# Altium schematic symbol library 10M04SCU324.SchLib: 1 symbol
Pins are listed as number, name and electrical type; pins without a type are passive.

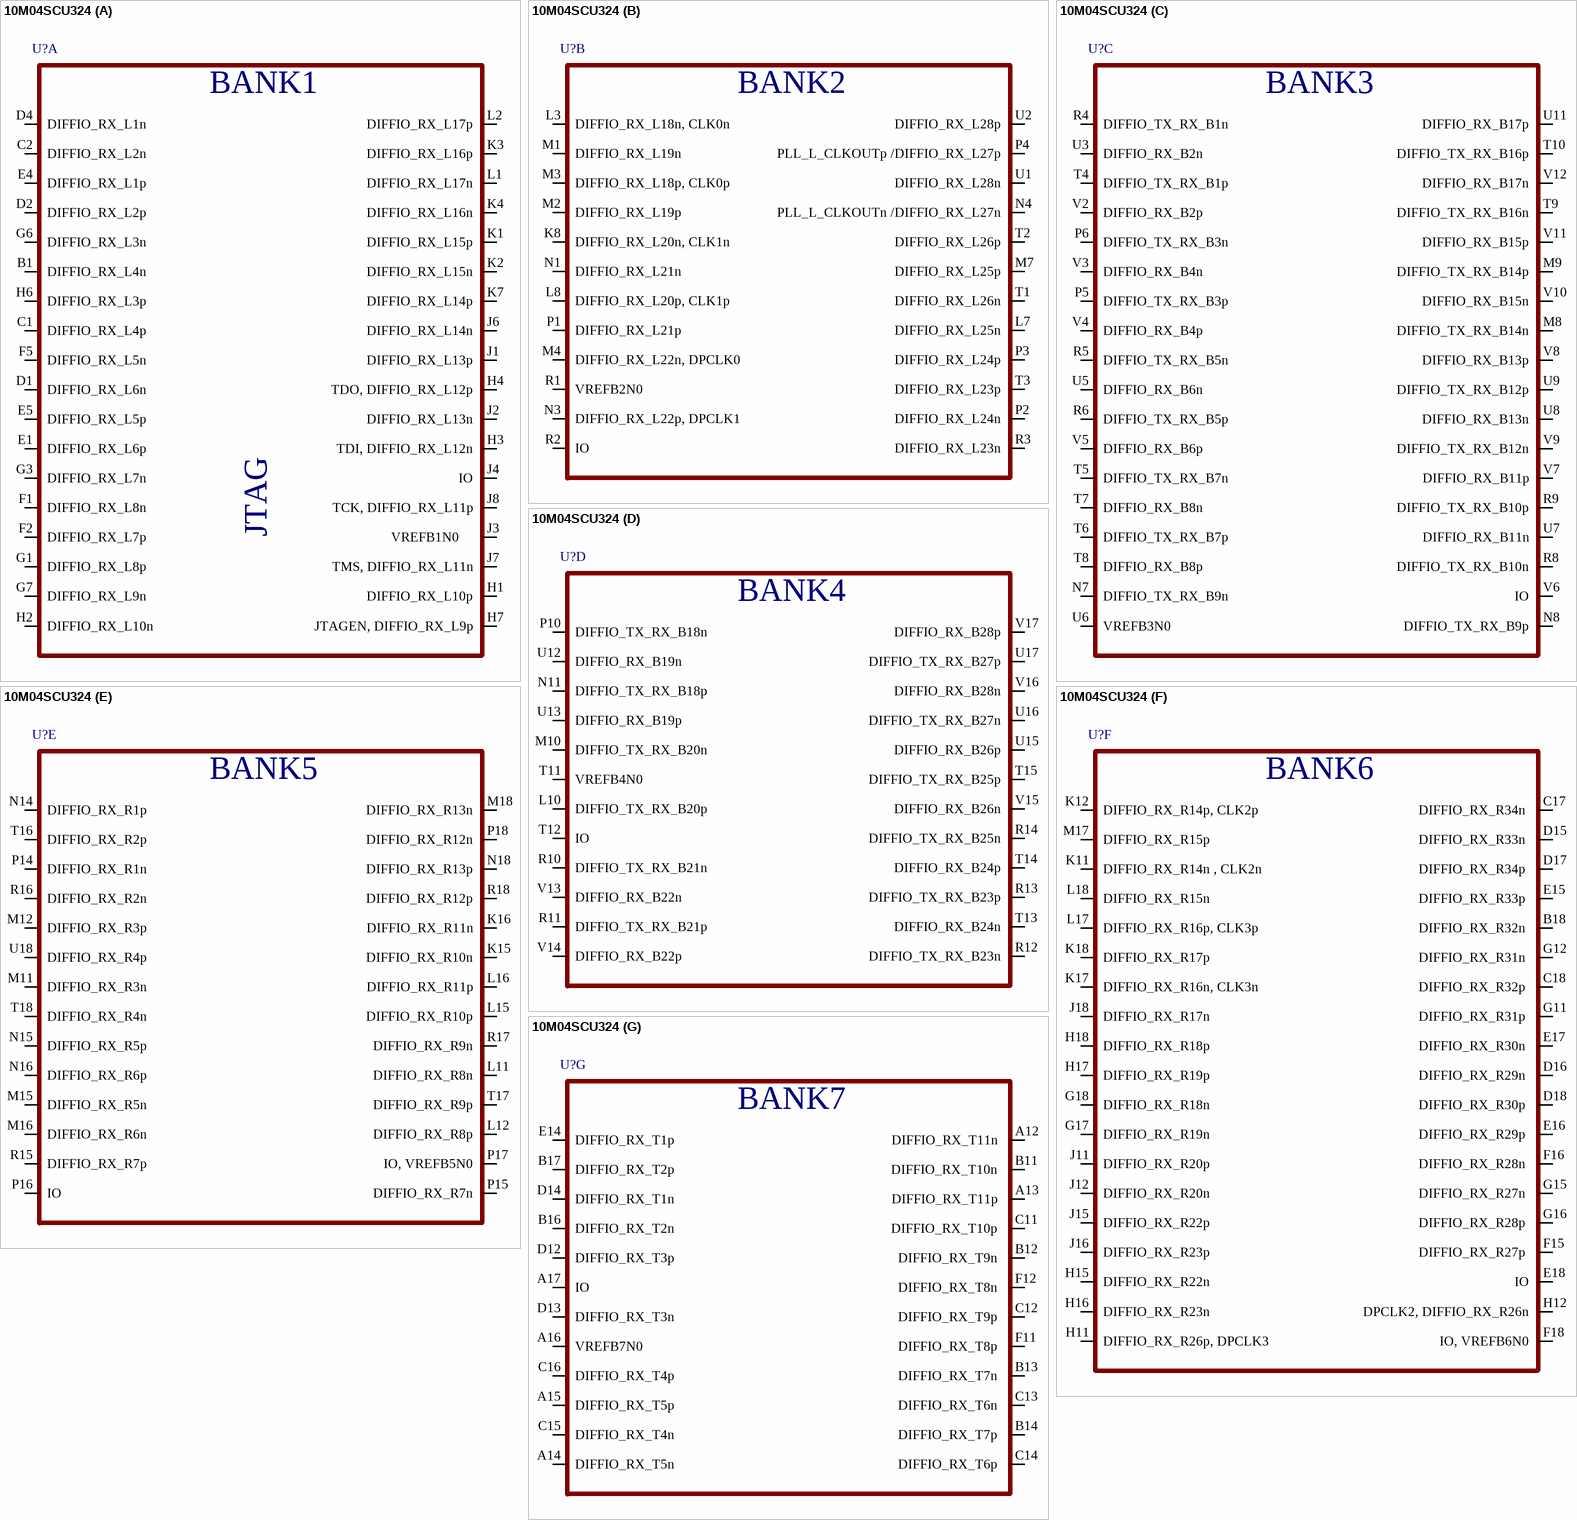
[diagram p0: symbol 10M04SCU324]

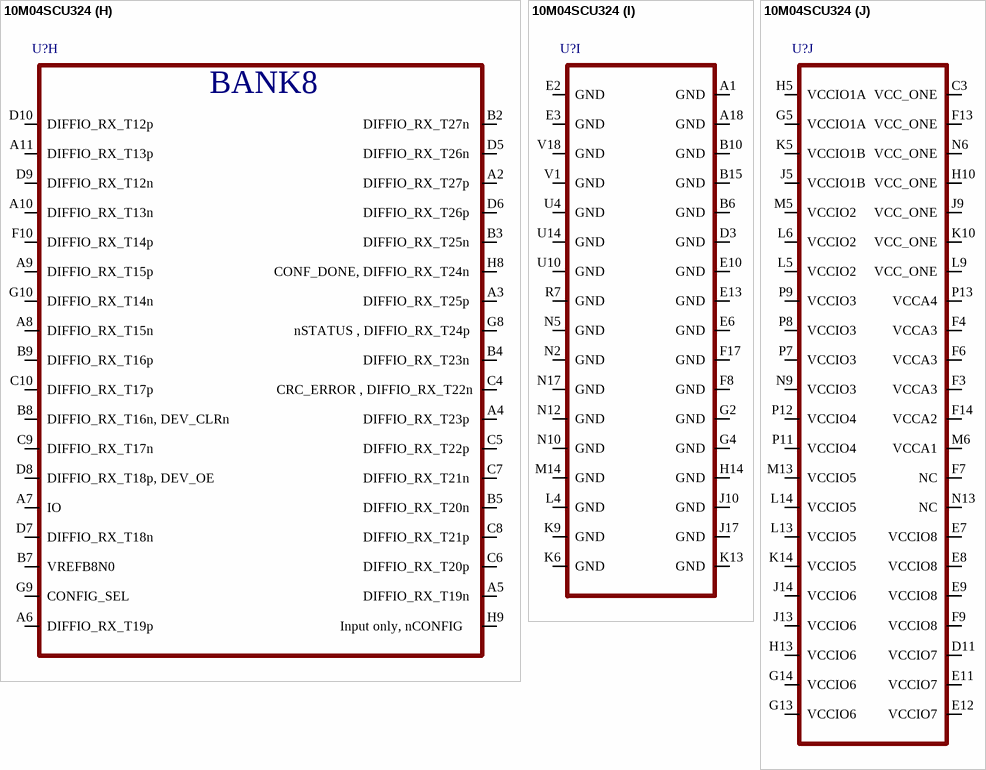
[diagram p1: symbol 10M04SCU324]

## 10M04SCU324
designator U?
part A pins: B1 DIFFIO_RX_L4n, C1 DIFFIO_RX_L4p, C2 DIFFIO_RX_L2n, D1 DIFFIO_RX_L6n, D2 DIFFIO_RX_L2p, D4 DIFFIO_RX_L1n, E1 DIFFIO_RX_L6p, E4 DIFFIO_RX_L1p, E5 DIFFIO_RX_L5p, F1 DIFFIO_RX_L8n, F2 DIFFIO_RX_L7p, F5 DIFFIO_RX_L5n, G1 DIFFIO_RX_L8p, G3 DIFFIO_RX_L7n, G6 DIFFIO_RX_L3n, G7 DIFFIO_RX_L9n, H1 DIFFIO_RX_L10p, H2 DIFFIO_RX_L10n, H3 TDI, DIFFIO_RX_L12n, H4 TDO, DIFFIO_RX_L12p, H6 DIFFIO_RX_L3p, H7 JTAGEN, DIFFIO_RX_L9p, J1 DIFFIO_RX_L13p, J2 DIFFIO_RX_L13n, J3 VREFB1N0    , J4 IO, J6 DIFFIO_RX_L14n, J7 TMS, DIFFIO_RX_L11n, J8 TCK, DIFFIO_RX_L11p, K1 DIFFIO_RX_L15p, K2 DIFFIO_RX_L15n, K3 DIFFIO_RX_L16p, K4 DIFFIO_RX_L16n, K7 DIFFIO_RX_L14p, L1 DIFFIO_RX_L17n, L2 DIFFIO_RX_L17p
part B pins: K8 DIFFIO_RX_L20n, CLK1n, L3 DIFFIO_RX_L18n, CLK0n, L7 DIFFIO_RX_L25n, L8 DIFFIO_RX_L20p, CLK1p, M1 DIFFIO_RX_L19n, M2 DIFFIO_RX_L19p, M3 DIFFIO_RX_L18p, CLK0p, M4 DIFFIO_RX_L22n, DPCLK0, M7 DIFFIO_RX_L25p, N1 DIFFIO_RX_L21n, N3 DIFFIO_RX_L22p, DPCLK1, N4 PLL_L_CLKOUTn /DIFFIO_RX_L27n, P1 DIFFIO_RX_L21p, P2 DIFFIO_RX_L24n, P3 DIFFIO_RX_L24p, P4 PLL_L_CLKOUTp /DIFFIO_RX_L27p, R1 VREFB2N0, R2 IO, R3 DIFFIO_RX_L23n, T1 DIFFIO_RX_L26n, T2 DIFFIO_RX_L26p, T3 DIFFIO_RX_L23p, U1 DIFFIO_RX_L28n, U2 DIFFIO_RX_L28p
part C pins: M8 DIFFIO_TX_RX_B14n, M9 DIFFIO_TX_RX_B14p, N7 DIFFIO_TX_RX_B9n, N8 DIFFIO_TX_RX_B9p, P5 DIFFIO_TX_RX_B3p, P6 DIFFIO_TX_RX_B3n, R4 DIFFIO_TX_RX_B1n, R5 DIFFIO_TX_RX_B5n, R6 DIFFIO_TX_RX_B5p, R8 DIFFIO_TX_RX_B10n, R9 DIFFIO_TX_RX_B10p, T4 DIFFIO_TX_RX_B1p, T5 DIFFIO_TX_RX_B7n, T6 DIFFIO_TX_RX_B7p, T7 DIFFIO_RX_B8n, T8 DIFFIO_RX_B8p, T9 DIFFIO_TX_RX_B16n, T10 DIFFIO_TX_RX_B16p, U3 DIFFIO_RX_B2n, U5 DIFFIO_RX_B6n, U6 VREFB3N0, U7 DIFFIO_RX_B11n, U8 DIFFIO_RX_B13n, U9 DIFFIO_TX_RX_B12p, U11 DIFFIO_RX_B17p, V2 DIFFIO_RX_B2p, V3 DIFFIO_RX_B4n, V4 DIFFIO_RX_B4p, V5 DIFFIO_RX_B6p, V6 IO, V7 DIFFIO_RX_B11p, V8 DIFFIO_RX_B13p, V9 DIFFIO_TX_RX_B12n, V10 DIFFIO_RX_B15n, V11 DIFFIO_RX_B15p, V12 DIFFIO_RX_B17n
part D pins: L10 DIFFIO_TX_RX_B20p, M10 DIFFIO_TX_RX_B20n, N11 DIFFIO_TX_RX_B18p, P10 DIFFIO_TX_RX_B18n, R10 DIFFIO_TX_RX_B21n, R11 DIFFIO_TX_RX_B21p, R12 DIFFIO_TX_RX_B23n, R13 DIFFIO_TX_RX_B23p, R14 DIFFIO_TX_RX_B25n, T11 VREFB4N0, T12 IO, T13 DIFFIO_RX_B24n, T14 DIFFIO_RX_B24p, T15 DIFFIO_TX_RX_B25p, U12 DIFFIO_RX_B19n, U13 DIFFIO_RX_B19p, U15 DIFFIO_RX_B26p, U16 DIFFIO_TX_RX_B27n, U17 DIFFIO_TX_RX_B27p, V13 DIFFIO_RX_B22n, V14 DIFFIO_RX_B22p, V15 DIFFIO_RX_B26n, V16 DIFFIO_RX_B28n, V17 DIFFIO_RX_B28p
part E pins: K15 DIFFIO_RX_R10n, K16 DIFFIO_RX_R11n, L11 DIFFIO_RX_R8n, L12 DIFFIO_RX_R8p, L15 DIFFIO_RX_R10p, L16 DIFFIO_RX_R11p, M11 DIFFIO_RX_R3n, M12 DIFFIO_RX_R3p, M15 DIFFIO_RX_R5n, M16 DIFFIO_RX_R6n, M18 DIFFIO_RX_R13n, N14 DIFFIO_RX_R1p, N15 DIFFIO_RX_R5p, N16 DIFFIO_RX_R6p, N18 DIFFIO_RX_R13p, P14 DIFFIO_RX_R1n, P15 DIFFIO_RX_R7n, P16 IO, P17 IO, VREFB5N0, P18 DIFFIO_RX_R12n, R15 DIFFIO_RX_R7p, R16 DIFFIO_RX_R2n, R17 DIFFIO_RX_R9n, R18 DIFFIO_RX_R12p, T16 DIFFIO_RX_R2p, T17 DIFFIO_RX_R9p, T18 DIFFIO_RX_R4n, U18 DIFFIO_RX_R4p
part F pins: B18 DIFFIO_RX_R32n , C17 DIFFIO_RX_R34n , C18 DIFFIO_RX_R32p , D15 DIFFIO_RX_R33n , D16 DIFFIO_RX_R29n , D17 DIFFIO_RX_R34p , D18 DIFFIO_RX_R30p , E15 DIFFIO_RX_R33p , E16 DIFFIO_RX_R29p , E17 DIFFIO_RX_R30n , E18 IO, F15 DIFFIO_RX_R27p , F16 DIFFIO_RX_R28n , F18 IO, VREFB6N0, G11 DIFFIO_RX_R31p , G12 DIFFIO_RX_R31n , G15 DIFFIO_RX_R27n , G16 DIFFIO_RX_R28p , G17 DIFFIO_RX_R19n , G18 DIFFIO_RX_R18n , H11 DIFFIO_RX_R26p, DPCLK3, H12 DPCLK2, DIFFIO_RX_R26n, H15 DIFFIO_RX_R22n , H16 DIFFIO_RX_R23n , H17 DIFFIO_RX_R19p , H18 DIFFIO_RX_R18p , J11 DIFFIO_RX_R20p , J12 DIFFIO_RX_R20n , J15 DIFFIO_RX_R22p , J16 DIFFIO_RX_R23p , J18 DIFFIO_RX_R17n , K11 DIFFIO_RX_R14n , CLK2n, K12 DIFFIO_RX_R14p, CLK2p, K17 DIFFIO_RX_R16n, CLK3n, K18 DIFFIO_RX_R17p , L17 DIFFIO_RX_R16p, CLK3p, L18 DIFFIO_RX_R15n , M17 DIFFIO_RX_R15p
part G pins: A12 DIFFIO_RX_T11n , A13 DIFFIO_RX_T11p , A14 DIFFIO_RX_T5n , A15 DIFFIO_RX_T5p , A16 VREFB7N0    , A17 IO     , B11 DIFFIO_RX_T10n , B12 DIFFIO_RX_T9n , B13 DIFFIO_RX_T7n , B14 DIFFIO_RX_T7p , B16 DIFFIO_RX_T2n , B17 DIFFIO_RX_T2p , C11 DIFFIO_RX_T10p , C12 DIFFIO_RX_T9p , C13 DIFFIO_RX_T6n , C14 DIFFIO_RX_T6p , C15 DIFFIO_RX_T4n , C16 DIFFIO_RX_T4p , D12 DIFFIO_RX_T3p , D13 DIFFIO_RX_T3n , D14 DIFFIO_RX_T1n , E14 DIFFIO_RX_T1p , F11 DIFFIO_RX_T8p , F12 DIFFIO_RX_T8n 
part H pins: A2 DIFFIO_RX_T27p , A3 DIFFIO_RX_T25p , A4 DIFFIO_RX_T23p , A5 DIFFIO_RX_T19n , A6 DIFFIO_RX_T19p , A7 IO     , A8 DIFFIO_RX_T15n , A9 DIFFIO_RX_T15p , A10 DIFFIO_RX_T13n , A11 DIFFIO_RX_T13p , B2 DIFFIO_RX_T27n , B3 DIFFIO_RX_T25n , B4 DIFFIO_RX_T23n , B5 DIFFIO_RX_T20n , B7 VREFB8N0    , B8 DIFFIO_RX_T16n, DEV_CLRn , B9 DIFFIO_RX_T16p , C4 CRC_ERROR , DIFFIO_RX_T22n, C5 DIFFIO_RX_T22p , C6 DIFFIO_RX_T20p , C7 DIFFIO_RX_T21n , C8 DIFFIO_RX_T21p , C9 DIFFIO_RX_T17n , C10 DIFFIO_RX_T17p , D5 DIFFIO_RX_T26n , D6 DIFFIO_RX_T26p , D7 DIFFIO_RX_T18n , D8 DIFFIO_RX_T18p, DEV_OE , D9 DIFFIO_RX_T12n , D10 DIFFIO_RX_T12p , F10 DIFFIO_RX_T14p , G8 nSTATUS , DIFFIO_RX_T24p , G9 CONFIG_SEL   , G10 DIFFIO_RX_T14n , H8 CONF_DONE, DIFFIO_RX_T24n , H9 Input only, nCONFIG   
part I pins: A1 GND, A18 GND, B6 GND, B10 GND, B15 GND, D3 GND, E2 GND, E3 GND, E6 GND, E10 GND, E13 GND, F8 GND, F17 GND, G2 GND, G4 GND, H14 GND, J10 GND, J17 GND, K6 GND, K9 GND, K13 GND, L4 GND, M14 GND, N2 GND, N5 GND, N10 GND, N12 GND, N17 GND, R7 GND, U4 GND, U10 GND, U14 GND, V1 GND, V18 GND
part J pins: C3 VCC_ONE, D11 VCCIO7, E7 VCCIO8, E8 VCCIO8, E9 VCCIO8, E11 VCCIO7, E12 VCCIO7, F3 VCCA3, F4 VCCA3, F6 VCCA3, F7 NC, F9 VCCIO8, F13 VCC_ONE, F14 VCCA2, G5 VCCIO1A, G13 VCCIO6, G14 VCCIO6, H5 VCCIO1A, H10 VCC_ONE, H13 VCCIO6, J5 VCCIO1B, J9 VCC_ONE, J13 VCCIO6, J14 VCCIO6, K5 VCCIO1B, K10 VCC_ONE, K14 VCCIO5, L5 VCCIO2, L6 VCCIO2, L9 VCC_ONE, L13 VCCIO5, L14 VCCIO5, M5 VCCIO2, M6 VCCA1, M13 VCCIO5, N6 VCC_ONE, N9 VCCIO3, N13 NC, P7 VCCIO3, P8 VCCIO3, P9 VCCIO3, P11 VCCIO4, P12 VCCIO4, P13 VCCA4
part A text: BANK1; JTAG
part B text: BANK2
part C text: BANK3
part D text: BANK4
part E text: BANK5
part F text: BANK6
part G text: BANK7
part H text: BANK8